# EAGLE library part SPARKFUN_FIO_V3 (library airball)
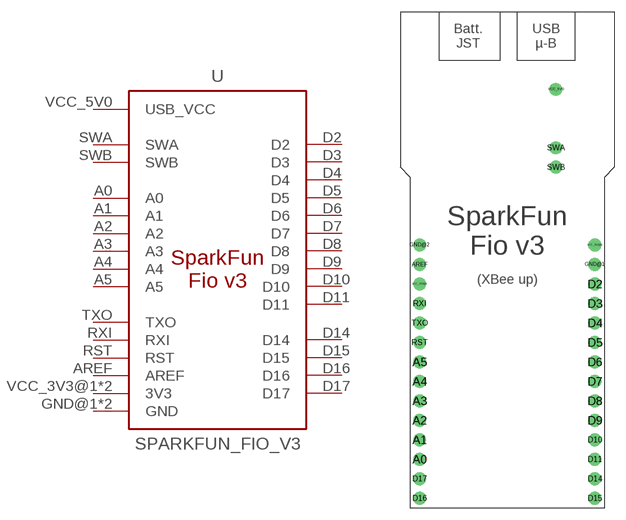
[diagram p0: symbol with the pads of SPARKFUN_FIO_V3; footprint SPARKFUN_FIO_V3]

Designator prefix -

## SPARKFUN_FIO_V3  [SPARKFUN_FIO_V3]
A0  A0
A1  A1
A2  A2
A3  A3
A4  A4
A5  A5
AREF  AREF
D2  D2
D3  D3
D4  D4
D5  D5
D6  D6
D7  D7
D8  D8
D9  D9
D10  D10
D11  D11
D14  D14
D15  D15
D16  D16
D17  D17
GND@1  GND  pwr
GND@2  GND  pwr
RST  RST
RXI  RXI  in
SWA  SWA
SWB  SWB
TXO  TXO  out
VCC_3V3@1  3V3  pwr
VCC_3V3@2  3V3  pwr
VCC_5V0  USB_VCC  pwr

## Footprint SPARKFUN_FIO_V3 (pad centres in mm)
drill 1 pad 1.676: A0 -11.43,-11.43; A1 -11.43,-8.89; A2 -11.43,-6.35; A3 -11.43,-3.81; A4 -11.43,-1.27; A5 -11.43,1.27; AREF -11.43,13.97; D2 11.43,11.43; D3 11.43,8.89; D4 11.43,6.35; D5 11.43,3.81; D6 11.43,1.27; D7 11.43,-1.27; D8 11.43,-3.81; D9 11.43,-6.35; D10 11.43,-8.89; D11 11.43,-11.43; D14 11.43,-13.97; D15 11.43,-16.51; D16 -11.43,-16.51; D17 -11.43,-13.97; GND@1 11.43,13.97; GND@2 -11.43,16.51; RST -11.43,3.81; RXI -11.43,8.89; SWA 6.35,29.21; SWB 6.35,26.67; TXO -11.43,6.35; VCC_3V3@1 11.43,16.51; VCC_3V3@2 -11.43,11.43; VCC_5V0 6.35,36.83